# Altium footprint library Fromm.PcbLib: 105 footprints (part 2 of 7)
Each footprint in its own frame and in the unit in brackets; x right, y up, seen from the top. Pads: shape width x height; smd on the part's side, far side on the other; paste and mask are expansions set on the pad; w line width, h text height; cw(c..) or ccw(c..) is an arc to the next point about the centre after c.
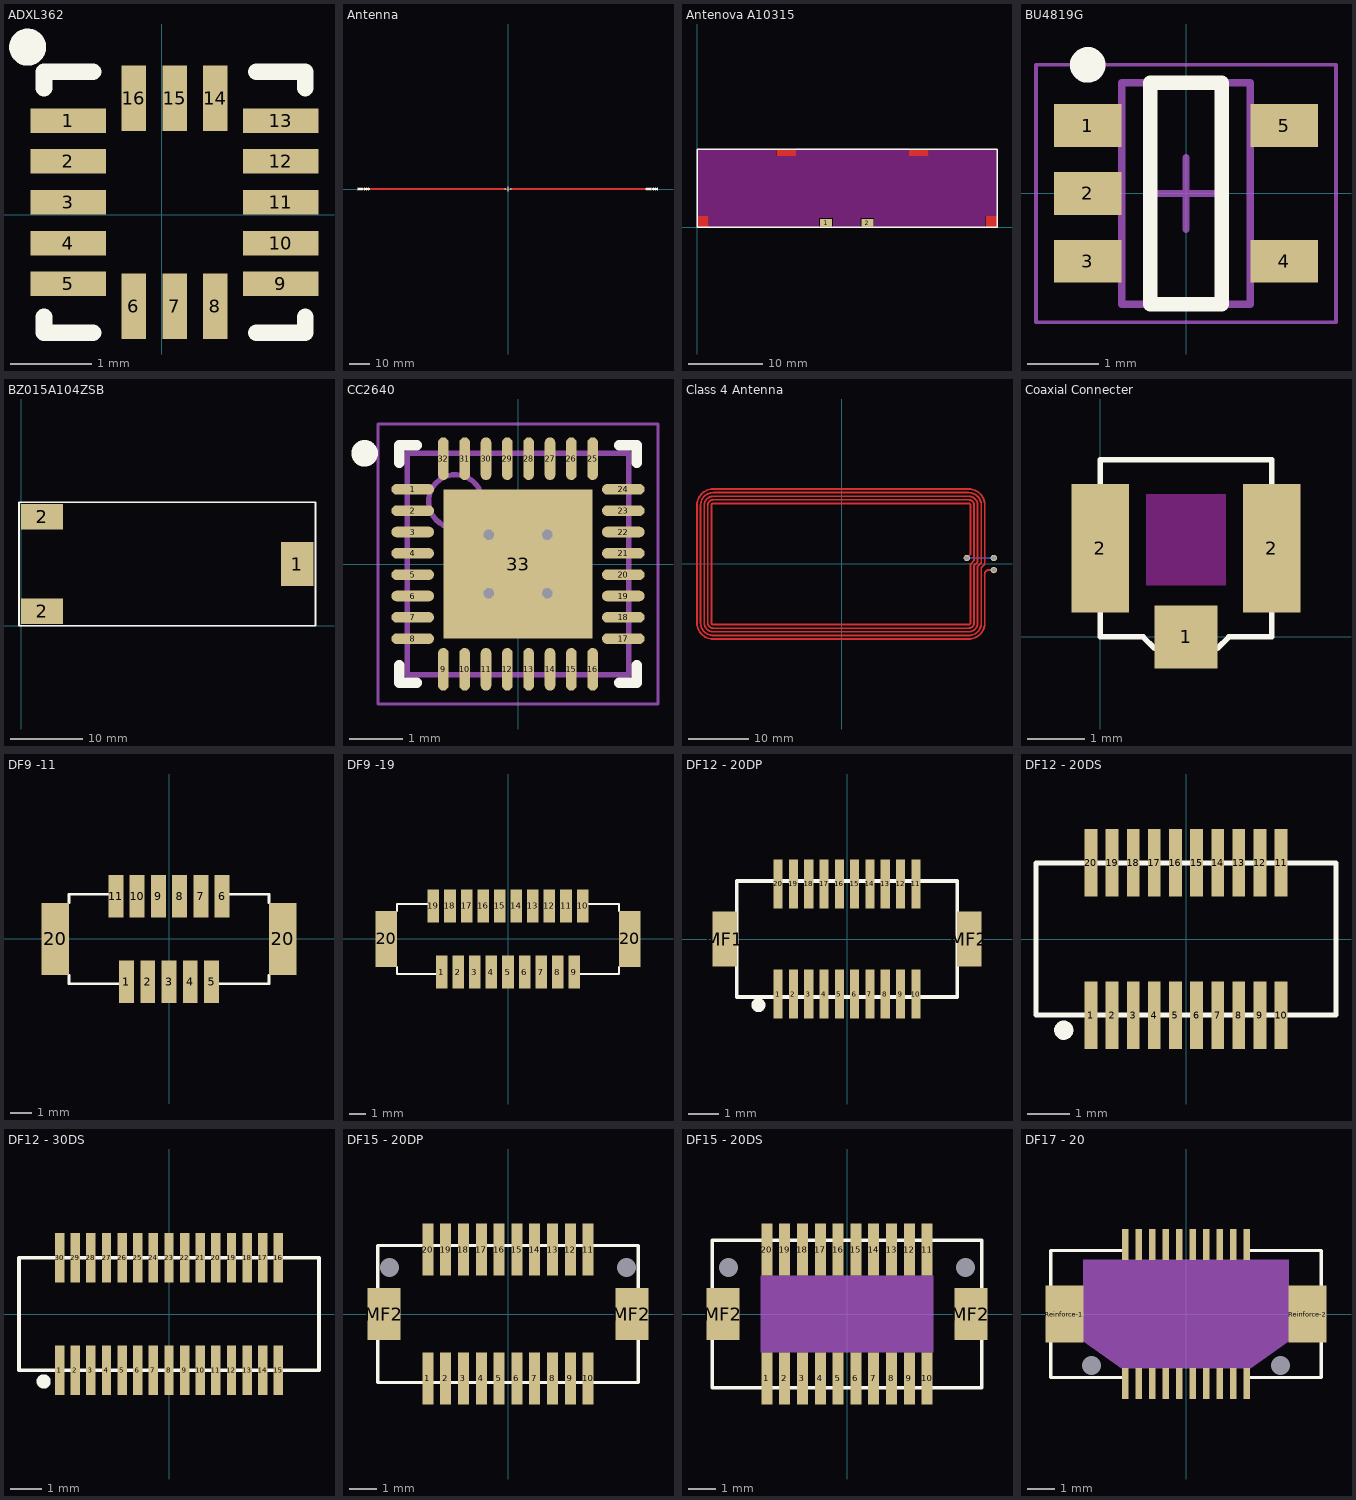
[diagram p1: the footprints below, top view; thin cyan lines are the x and y axes]

## ADXL362 [mm] "SMD Accelerometer"
pads (16):
  rect 0.925x0.3 smd: 1(-1.144,1.151) 2(-1.144,0.651) 3(-1.144,0.151) 4(-1.144,-0.349) 5(-1.144,-0.849) 9(1.456,-0.849) 10(1.456,-0.349) 11(1.456,0.151) 12(1.456,0.651) 13(1.456,1.151)
  rect 0.3x0.8 smd: 6(-0.344,-1.124) 7(0.156,-1.124) 8(0.656,-1.124) 14(0.656,1.426) 15(0.156,1.426) 16(-0.344,1.426)
Top Overlay:
  circle w0.254: c-1.644,2.051 r0.1
  lines w0.203: -1.444,-1.249 -1.444,-1.449 -0.844,-1.449 ; -1.444,1.551 -1.444,1.751 -0.844,1.751 ; 1.156,-1.449 1.756,-1.449 1.756,-1.249 ; 1.156,1.751 1.756,1.751 1.756,1.551
3D body: height 1.14, standoff 0, extent -1.344,-1.349 1.656,1.651

## Antenna [mm] "915MHz ant used on WIPS 4.0DL"
pads (2):
  round 1 hole 0.6: 1(1.27,0) 2(-1.27,0)
Top Layer:
  rectangle: -72.131,-0.5 -1.25,0.5
  region: 72.131,0.5 1.25,0.5 1.25,-0.5 72.131,-0.5
Top Overlay:
  lines w0.08: -72,-0.5 -72,0.5 ; -71.5,-0.25 -71.5,0.25 ; -71,-0.5 -71,0.5 ; -70.5,-0.25 -70.5,0.25 ; -70,-0.5 -70,0.5 ; -69.5,-0.25 -69.5,0.25 ; -69,-0.5 -69,0.5 ; -68.5,-0.25 -68.5,0.25 ; -68,-0.5 -68,0.5 ; -67.5,-0.25 -67.5,0.25 ; -67,-0.5 -67,0.5 ; -66.5,-0.25 -66.5,0.25 ; 0,-1 0,1 ; 66.5,-0.25 66.5,0.25 ; 67,-0.5 67,0.5 ; 67.5,-0.25 67.5,0.25 ; 68,-0.5 68,0.5 ; 68.5,-0.25 68.5,0.25 ; 69,-0.5 69,0.5 ; 69.5,-0.25 69.5,0.25 ; 70,-0.5 70,0.5 ; 70.5,-0.25 70.5,0.25 ; 71,-0.5 71,0.5 ; 71.5,-0.25 71.5,0.25 ; 72,-0.5 72,0.5

## Antenova A10315 [mm] "Antenna"
height 3.2
pads (2):
  rect 1.6x1.1 smd: 1(17.2,0.55) 2(22.7,0.55)
Top Layer:
  rectangle: 38.5,0 40,1.5
  rectangle: 0,0 1.5,1.5
  rectangle: 28.28,9.5 30.88,10.4
  rectangle: 10.56,9.5 13.16,10.4
Top Overlay:
  lines w0.2: 0,0 0,10.4 40,10.4 40,0 0,0
Top Solder:
  rectangle: 0.025,0.025 1.5,1.5
  rectangle: 38.5,0.025 39.975,1.5
  rectangle: 28.275,9.5 30.9,10.425
  rectangle: 10.55,9.5 13.175,10.425
Keep-Out Layer:
  region: 0,10.4 10.5,10.4 10.5,9.45 13.225,9.45 13.225,10.425 28.2,10.425 28.2,9.45 30.925,9.45 30.925,10.4 39.975,10.4 39.975,1.55 38.45,1.55 38.45,0 23.65,0 23.65,1.25 21.75,1.25 21.75,0 18.15,0 18.15,1.25 16.25,1.25 16.25,0 1.55,0 1.55,1.55 -0.025,1.55

## BU4819G [mm] "SOT23, 5-Leads, Body 2.90x2.80mm, Pitch 0.95mm, IPC Medium Density"
height 1.25
pads (5):
  rect 0.95x0.6 smd: 1(-1.375,0.95) 2(-1.375,0) 3(-1.375,-0.95) 4(1.375,-0.95) 5(1.375,0.95)
Top Overlay:
  circle w0.25: c-1.375,1.8 r0.125
  lines w0.2: -0.5,-1.55 0.5,-1.55 0.5,1.55 -0.5,1.55 -0.5,-1.55
Mechanical 13:
  lines w0.1: -0.9,-1.55 -0.9,1.55 0.9,1.55 0.9,-1.55 -0.9,-1.55
Mechanical 15:
  lines w0.05: -2.1,-1.8 -2.1,1.8 2.1,1.8 2.1,-1.8 -2.1,-1.8
  lines w0.1: -0.5,0 0.5,0 ; 0,-0.5 0,0.5
3D body: height 1.25, standoff 0.05, extent -0.9,-1.55 0.9,1.55

## BZ015A104ZSB [mm] "SuperCap"
height 3
pads (3):
  rect 4.5x6 smd: 1(38,8.5)
  rect 5.8x3.5 smd: 2(2.9,2) 2(2.9,15)
Top Overlay:
  lines w0.254: -0.279,0 -0.279,17 40.513,17 40.513,0 -0.279,0

## CC2640 [mm] "BLE IC"
height 1
pads (33):
  oval 0.8x0.2 smd: 1(-1.975,1.4) 2(-1.975,1) 3(-1.975,0.6) 4(-1.975,0.2) 5(-1.975,-0.2) 6(-1.975,-0.6) 7(-1.975,-1) 8(-1.975,-1.4) 17(1.975,-1.4) 18(1.975,-1) 19(1.975,-0.6) 20(1.975,-0.2) 21(1.975,0.2) 22(1.975,0.6) 23(1.975,1) 24(1.975,1.4)
  oval 0.2x0.8 smd: 9(-1.4,-1.975) 10(-1,-1.975) 11(-0.6,-1.975) 12(-0.2,-1.975) 13(0.2,-1.975) 14(0.6,-1.975) 15(1,-1.975) 16(1.4,-1.975) 25(1.4,1.975) 26(1,1.975) 27(0.6,1.975) 28(0.2,1.975) 29(-0.2,1.975) 30(-0.6,1.975) 31(-1,1.975) 32(-1.4,1.975)
  rect 2.8x2.8 smd: 33(0,0)
via -0.55,0.55 diameter 0.5 hole 0.2
via 0.55,0.55 diameter 0.5 hole 0.2
via -0.55,-0.55 diameter 0.5 hole 0.2
via 0.55,-0.55 diameter 0.5 hole 0.2
Top Overlay:
  circle w0.25: c-2.875,2.075 r0.125
  lines w0.2: -2.225,-1.9 -2.225,-2.225 -1.9,-2.225 ; -2.225,1.9 -2.225,2.225 -1.9,2.225 ; 1.9,-2.225 2.225,-2.225 2.225,-1.9 ; 1.9,2.225 2.225,2.225 2.225,1.9
Mechanical 13:
  circle w0.1: c-1.175,1.175 r0.5
  lines w0.1: -2.075,-2.075 -2.075,2.075 2.075,2.075 2.075,-2.075 -2.075,-2.075
Mechanical 15:
  lines w0.05: -2.625,-2.625 -2.625,2.625 2.625,2.625 2.625,-2.625 -2.625,-2.625
  lines w0.1: -0.5,0 0.5,0 ; 0,-0.5 0,0.5
3D body: height 1, standoff 0.2, extent -2.075,-2.075 2.075,2.075

## Class 4 Antenna [mil] "NFC Antenna with Class 4 Specifications"
pads (3):
  round 42 hole 28: 1(999.24,-40.71) 2(999.24,38.66) 3(822.24,38.66)
Top Layer:
  lines w12: 822.24,38.66 846.24,61.66 846.24,384.66 ccw(c834.24,384.66) 834.24,396.66 -843.35,396.66 ccw(c-843.25,384.76) -855.16,384.66 -855.16,-387.17 ccw(c-843.35,-387.17) -843.35,-398.98 834.24,-398.98 ccw(c834.33,-387.07) 846.24,-387.17 846.24,-1.34 870.24,22.66 870.24,384.66 ccw(c834.24,384.66) 834.24,420.66 -843.35,420.66 ccw(c-843.06,384.94) -878.78,384.66 -878.78,-387.17 ccw(c-843.35,-387.17) -843.35,-422.6 834.24,-422.6 ccw(c834.52,-386.88) 870.24,-387.17 870.24,-9.21 893.24,14.66 893.24,384.66 ccw(c834.24,384.66) 834.24,443.66 -843.35,443.66 ccw(c-843.37,384.63) -902.4,384.66 -902.4,-387.17 ccw(c-843.35,-387.17) -843.35,-446.22 834.24,-446.22 ccw(c834.21,-387.19) 893.24,-387.17 893.24,-17.09 917.24,6.66 917.24,384.66 ccw(c834.24,384.66) 834.24,467.66 -843.35,467.66 ccw(c-843.18,384.82) -926.02,384.66 -926.02,-387.17 ccw(c-843.35,-387.17) -843.35,-469.84 834.24,-469.84 ccw(c834.4,-387) 917.24,-387.17 917.24,-24.96 940.24,-1.34 940.24,384.66 ccw(c833.74,385.16) 834.24,491.66 -843.35,491.66 ccw(c-843,385.01) -949.65,384.66 -949.65,-387.17 ccw(c-843.35,-387.17) -843.35,-493.46 834.24,-493.46 ccw(c834.09,-387.31) 940.24,-387.17 940.24,-64.33 cw(c964.05,-64.52) 964.24,-40.71 999.24,-40.71
Bottom Layer:
  lines w12: 822.24,38.66 999.24,38.66
Top Solder:
  circle w24: c-4.76,-1.34 r200
  lines w24: -104.76,-1.34 95.24,-1.34 ; -4.76,-101.34 -4.76,98.66
  text "48 x 25 mm" at 258.24,121.66 h108.5
  text "w = 0.3mm" at -765.39,113.66 h108.5
  text "g = 0.3 mm" at -765.39,-283.23 h108.5
  text "5 turns" at 258.24,-286.38 h108.5
  text "Class 4 - 50 pF #01" at -391.38,262.66 h108.5

## Coaxial Connecter [mm] "Ultra Small Surface Mount Coaxial Connecter"
height 3.2
pads (3):
  rect 1.1x1.1 smd: 1(1.5,0)
  rect 1x2.25 smd: 2(0,1.55) 2(3,1.55)
Top Overlay:
  lines w0.1: -0.2,0.975 0,0.775 0,0 0.75,0 0.95,-0.2 2.05,-0.2 2.25,0 3,0 3,0.775 3.2,0.975 3.2,2.125 3,2.325 3,3.1 0,3.1 0,2.325 -0.2,2.125 -0.2,0.975
Keep-Out Layer:
  rectangle: 0.8,0.9 2.2,2.5

## DF9 -11 [mm] "DF9 -11, 11Pin Connector"
pads (13):
  rect 0.7x2 smd: 1(-2,-2) 2(-1,-2) 3(0,-2) 4(1,-2) 5(2,-2) 6(2.5,2) 7(1.5,2) 8(0.5,2) 9(-0.5,2) 10(-1.5,2) 11(-2.5,2)
  rect 1.3x3.4 smd: 20(-5.35,0) 20(5.35,0)
Top Overlay:
  lines w0.127: -4.7,-1.7 -4.7,-2.1 -2.3,-2.1 ; -4.7,1.7 -4.7,2.1 -2.8,2.1 ; 2.3,-2.1 4.7,-2.1 4.7,-1.7 ; 2.8,2.1 4.7,2.1 4.7,1.7

## DF9 -19 [mm] "DF9 -19, 19 Pin Connector"
pads (21):
  rect 0.7x2 smd: 1(-4,-2) 2(-3,-2) 3(-2,-2) 4(-1,-2) 5(0,-2) 6(1,-2) 7(2,-2) 8(3,-2) 9(4,-2) 10(4.5,2) 11(3.5,2) 12(2.5,2) 13(1.5,2) 14(0.5,2) 15(-0.5,2) 16(-1.5,2) 17(-2.5,2) 18(-3.5,2) 19(-4.5,2)
  rect 1.3x3.4 smd: 20(-7.35,0) 20(7.35,0)
Top Overlay:
  lines w0.127: -6.7,-1.7 -6.7,-2.1 -4.3,-2.1 ; -6.7,1.7 -6.7,2.1 -4.8,2.1 ; 4.3,-2.1 6.7,-2.1 6.7,-1.7 ; 4.8,2.1 6.7,2.1 6.7,1.7

## DF12 - 20DP [mm] "DF12 - 20DP, Connector Header"
height 2.3
pads (22):
  rect 0.3x1.6 smd: 1(-2.25,-1.8) 2(-1.75,-1.8) 3(-1.25,-1.8) 4(-0.75,-1.8) 5(-0.25,-1.8) 6(0.25,-1.8) 7(0.75,-1.8) 8(1.25,-1.8) 9(1.75,-1.8) 10(2.25,-1.8) 11(2.25,1.8) 12(1.75,1.8) 13(1.25,1.8) 14(0.75,1.8) 15(0.25,1.8) 16(-0.25,1.8) 17(-0.75,1.8) 18(-1.25,1.8) 19(-1.75,1.8) 20(-2.25,1.8)
  rect 0.8x1.8 smd: MF1(-4,0) MF2(4,0)
Top Overlay:
  circle w0.254: c-2.894,-2.159 r0.1
  lines w0.127: -3.6,-1.9 3.6,-1.9 3.6,1.9 -3.6,1.9 -3.6,-1.9
Mechanical 1:
  text "Conductors in area must be masked" at -2.1,0 h0.3
3D body: height 0, standoff 0, extent -2.4,-1 2.4,1

## DF12 - 20DS [mm] "DF12 - 20DS, Connector Receptacle"
height 2.7
pads (20):
  rect 0.3x1.6 smd: 1(-2.25,-1.8) 2(-1.75,-1.8) 3(-1.25,-1.8) 4(-0.75,-1.8) 5(-0.25,-1.8) 6(0.25,-1.8) 7(0.75,-1.8) 8(1.25,-1.8) 9(1.75,-1.8) 10(2.25,-1.8) 11(2.25,1.8) 12(1.75,1.8) 13(1.25,1.8) 14(0.75,1.8) 15(0.25,1.8) 16(-0.25,1.8) 17(-0.75,1.8) 18(-1.25,1.8) 19(-1.75,1.8) 20(-2.25,1.8)
Top Overlay:
  circle w0.254: c-2.894,-2.159 r0.1
  lines w0.127: -3.55,-1.8 -3.55,1.8 3.55,1.8 3.55,-1.8 -3.55,-1.8
Mechanical 1:
  text "Conductors in area must be masked" at -2.1,0 h0.3
3D body: height 0, standoff 0, extent -2.4,-1 2.4,1

## DF12 - 30DS [mm] "DF12 - 30DS, Connector Receptacle"
height 2.7
pads (30):
  rect 0.3x1.6 smd: 1(-3.5,-1.8) 2(-3,-1.8) 3(-2.5,-1.8) 4(-2,-1.8) 5(-1.5,-1.8) 6(-1,-1.8) 7(-0.5,-1.8) 8(0,-1.8) 9(0.5,-1.8) 10(1,-1.8) 11(1.5,-1.8) 12(2,-1.8) 13(2.5,-1.8) 14(3,-1.8) 15(3.5,-1.8) 16(3.5,1.8) 17(3,1.8) 18(2.5,1.8) 19(2,1.8) 20(1.5,1.8) 21(1,1.8) 22(0.5,1.8) 23(0,1.8) 24(-0.5,1.8) 25(-1,1.8) 26(-1.5,1.8) 27(-2,1.8) 28(-2.5,1.8) 29(-3,1.8) 30(-3.5,1.8)
Top Overlay:
  circle w0.254: c-4.012,-2.159 r0.1
  lines w0.127: -4.8,-1.8 4.8,-1.8 4.8,1.8 -4.8,1.8 -4.8,-1.8
Mechanical 1:
  text "Conductors in area must be masked" at -2.1,0 h0.3
3D body: height 0, standoff 0, extent -3.7,-1 3.7,1

## DF15 - 20DP [mm] "DF15 - 20DP, Connector Header"
height 3.2
pads (24):
  rect 0.4x1.9 smd: 1(-2.925,-2.35) 2(-2.275,-2.35) 3(-1.625,-2.35) 4(-0.975,-2.35) 5(-0.325,-2.35) 6(0.325,-2.35) 7(0.975,-2.35) 8(1.625,-2.35) 9(2.275,-2.35) 10(2.925,-2.35) 11(2.925,2.35) 12(2.275,2.35) 13(1.625,2.35) 14(0.975,2.35) 15(0.325,2.35) 16(-0.325,2.35) 17(-0.975,2.35) 18(-1.625,2.35) 19(-2.275,2.35) 20(-2.925,2.35)
  round 0 hole 0.7 unplated: 2(4.325,1.7) boss1(-4.325,1.7)
  rect 1.2x1.9 smd: MF2(-4.525,0) MF2(4.525,0)
Top Overlay:
  lines w0.127: -4.75,-2.5 4.75,-2.5 4.75,2.5 -4.75,2.5 -4.75,-2.5

## DF15 - 20DS [mm] "DF15 - 20DS, Connector Receptacle"
height 3.2
pads (24):
  rect 0.4x1.9 smd: 1(-2.925,-2.35) 2(-2.275,-2.35) 3(-1.625,-2.35) 4(-0.975,-2.35) 5(-0.325,-2.35) 6(0.325,-2.35) 7(0.975,-2.35) 8(1.625,-2.35) 9(2.275,-2.35) 10(2.925,-2.35) 11(2.925,2.35) 12(2.275,2.35) 13(1.625,2.35) 14(0.975,2.35) 15(0.325,2.35) 16(-0.325,2.35) 17(-0.975,2.35) 18(-1.625,2.35) 19(-2.275,2.35) 20(-2.925,2.35)
  round 0 hole 0.7 unplated: boss1(-4.325,1.7) boss2(4.325,1.7)
  rect 1.2x1.9 smd: MF2(-4.525,0) MF2(4.525,0)
Top Overlay:
  lines w0.127: -4.925,-2.7 4.925,-2.7 4.925,2.7 -4.925,2.7 -4.925,-2.7
Mechanical 1:
  rectangle: -3.163,-1.4 3.163,1.4
  text "Conductors in area must be masked" at -2.8,-1.9 h0.4

## DF17 - 20 [mm] "DF17 - 20, Connector"
pads (24):
  rect 0.25x1.15 smd: 1(-2.25,-2.575) 2(-1.75,-2.575) 3(-1.25,-2.575) 4(-0.75,-2.575) 5(-0.25,-2.575) 6(0.25,-2.575) 7(0.75,-2.575) 8(1.25,-2.575) 9(1.75,-2.575) 10(2.25,-2.575) 11(2.25,2.575) 12(1.75,2.575) 13(1.25,2.575) 14(0.75,2.575) 15(0.25,2.575) 16(-0.25,2.575) 17(-0.75,2.575) 18(-1.25,2.575) 19(-1.75,2.575) 20(-2.25,2.575)
  round 0 hole 0.7 unplated: Guide_Post-1(-3.5,-1.9) Guide_Post-2(3.5,-1.9)
  rect 1.4x2.1 smd: Reinforce-1(-4.5,0) Reinforce-2(4.5,0)
Top Overlay:
  lines w0.127: -5,-1.05 -5,-2.35 -2.35,-2.35 ; -5,1.05 -5,2.35 -2.35,2.35 ; 2.35,-2.35 5,-2.35 5,-1.05 ; 2.4,2.35 5,2.35 5,1.05
Mechanical 1:
  region: -3.8,2 -3.8,-1 -2.4,-2 2.4,-2 3.8,-1 3.8,2
  text "Conductors in area must be masked" at -1.4,-2.3 h0.2